# EAGLE library part 2BY10 (library Headers)
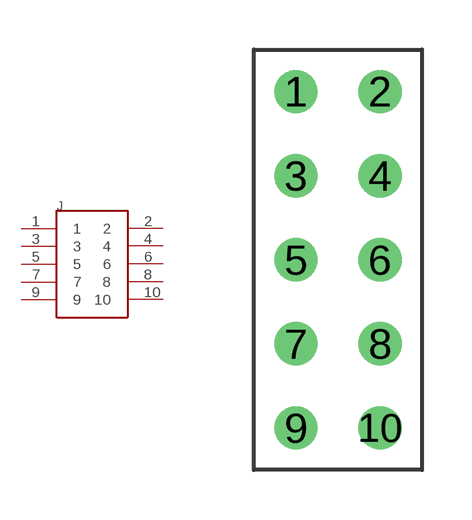
[diagram p1: symbol with the pads of 2BY5; footprint 2BY5]

Designator prefix J

## 2BY10  [2BY5]
1  1
2  2
3  3
4  4
5  5
6  6
7  7
8  8
9  9
10  10

## Footprint 2BY5 (pad centres in mm)
drill 0.8: 1 -1.27,5.08; 2 1.27,5.08; 3 -1.27,2.54; 4 1.27,2.54; 5 -1.27,0; 6 1.27,0; 7 -1.27,-2.54; 8 1.27,-2.54; 9 -1.27,-5.08; 10 1.27,-5.08